# Altium footprint library Package_SO.PcbLib: 393 footprints (part 1 of 25)
Each footprint in its own frame and in the unit in brackets; x right, y up, seen from the top. Pads: shape width x height; smd on the part's side, far side on the other; paste and mask are expansions set on the pad; w line width, h text height; cw(c..) or ccw(c..) is an arc to the next point about the centre after c.
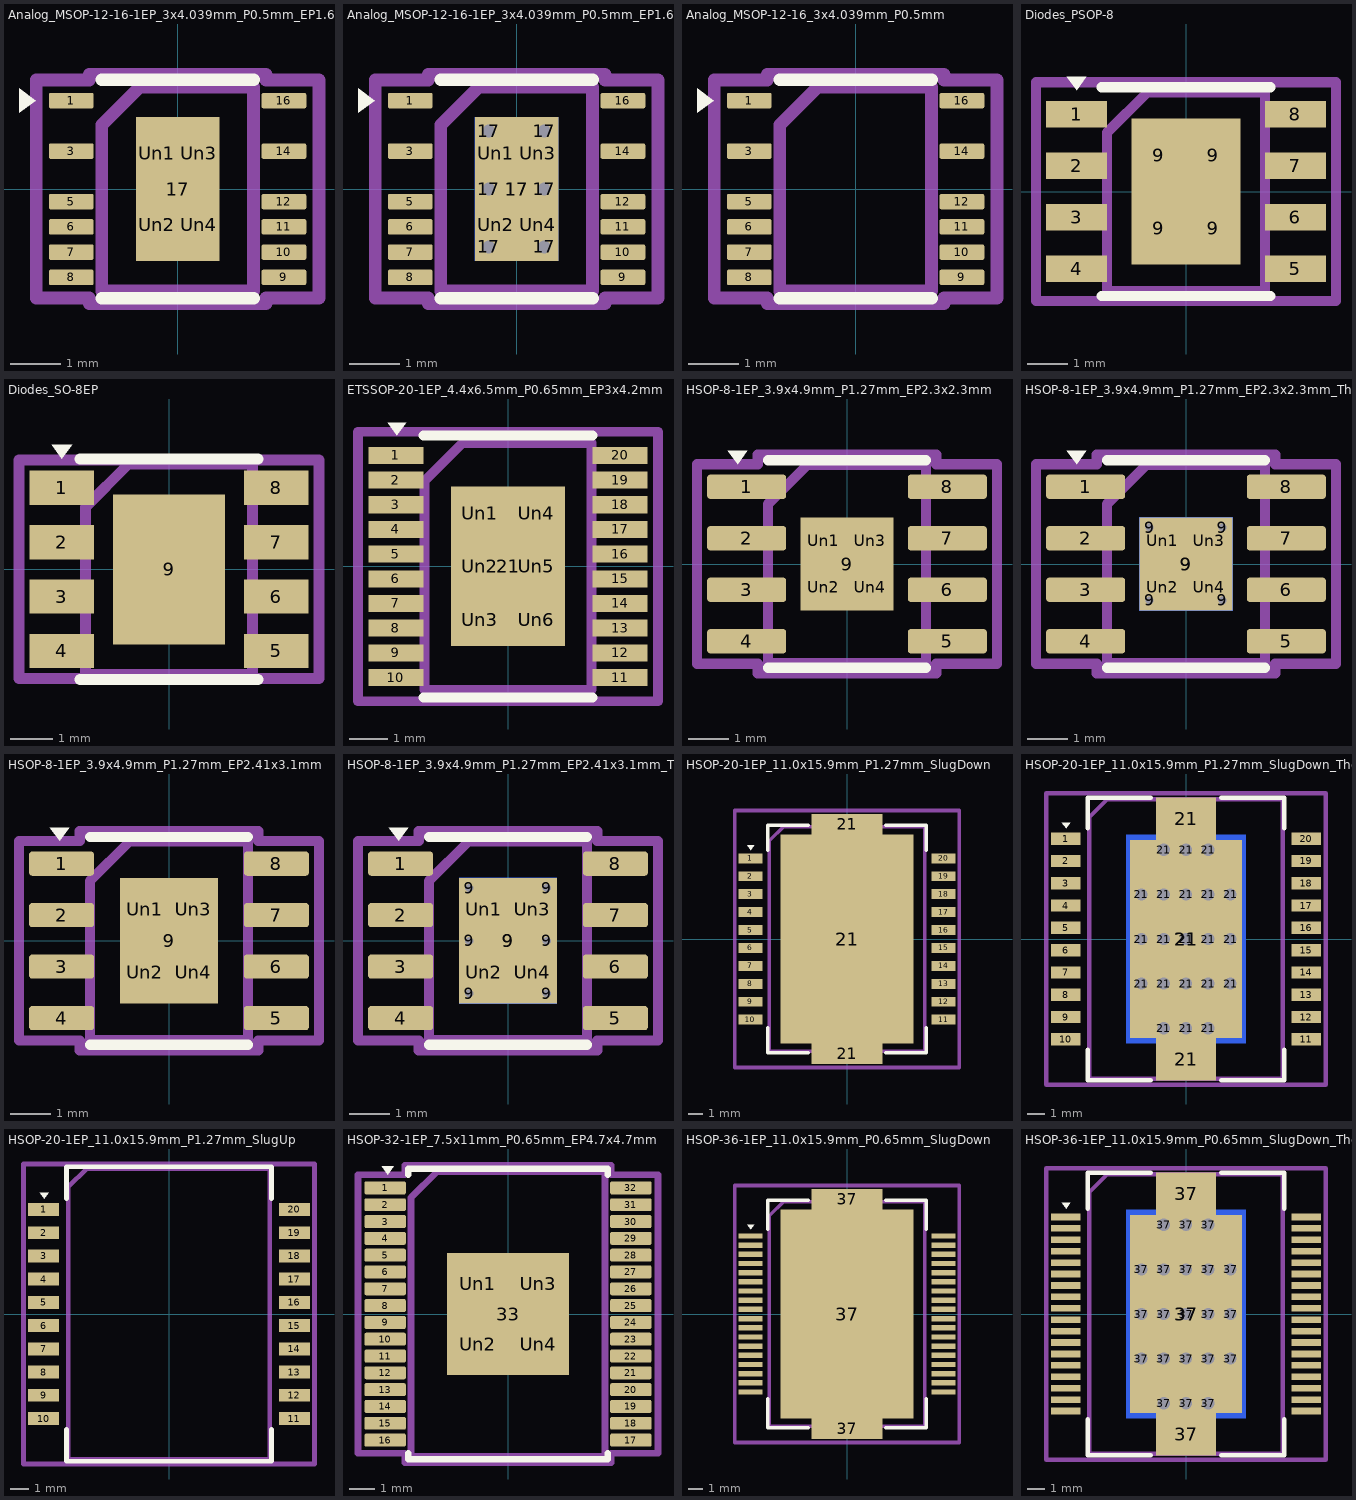
[diagram p0: the footprints below, top view; thin cyan lines are the x and y axes]

## Analog_MSOP-12-16-1EP_3x4.039mm_P0.5mm_EP1.651x2.845mm [mm]
pads (17):
  rrect25% 0.889x0.305 smd: 1(-2.105,1.75) 3(-2.105,0.75) 5(-2.105,-0.25) 6(-2.105,-0.75) 7(-2.105,-1.25) 8(-2.105,-1.75) 9(2.105,-1.75) 10(2.105,-1.25) 11(2.105,-0.75) 12(2.105,-0.25) 14(2.105,0.75) 16(2.105,1.75)
  rect 1.651x2.845 smd: 17(0,0)
  rrect25% 0.69x1.19 on Top Paste: Un1(-0.415,0.71) Un2(-0.415,-0.71) Un3(0.415,0.71) Un4(0.415,-0.71)
F.SilkS:
  region: -2.81,1.75 -3.14,1.51 -3.14,1.99
  lines w0.254: -1.5,-2.163 0,-2.163 1.5,-2.163 ; -1.5,2.163 0,2.163 1.5,2.163
Top Assembly:
  lines w0.254: -1.5,-2.02 -1.5,1.269 -0.75,2.02 1.5,2.02 1.5,-2.02 -1.5,-2.02
  text "'.Designator'" at -3.033,-0.628 h0.75
Top Courtyard:
  lines w0.254: -2.8,-2.16 -2.8,2.16 -1.75,2.16 -1.75,2.27 1.75,2.27 1.75,2.16 2.8,2.16 2.8,-2.16 1.75,-2.16 1.75,-2.27 -1.75,-2.27 -1.75,-2.16 -2.8,-2.16
Top Designator:
  text ".Designator" at -7.725,-0.508 h1.52

## Analog_MSOP-12-16-1EP_3x4.039mm_P0.5mm_EP1.651x2.845mm_ThermalVias [mm]
pads (24):
  rrect25% 0.889x0.305 smd: 1(-2.105,1.75) 3(-2.105,0.75) 5(-2.105,-0.25) 6(-2.105,-0.75) 7(-2.105,-1.25) 8(-2.105,-1.75) 9(2.105,-1.75) 10(2.105,-1.25) 11(2.105,-0.75) 12(2.105,-0.25) 14(2.105,0.75) 16(2.105,1.75)
  round 0.55 hole 0.25: 17(-0.55,-1.148) 17(-0.55,0) 17(-0.55,1.148) 17(0.55,-1.148) 17(0.55,0) 17(0.55,1.148)
  rect 1.651x2.845 smd: 17(0,0)
  rect 1.651x2.845 smd far side: 17(0,0)
  rrect25% 0.69x1.19 on Top Paste: Un1(-0.415,0.71) Un2(-0.415,-0.71) Un3(0.415,0.71) Un4(0.415,-0.71)
F.SilkS:
  region: -2.81,1.75 -3.14,1.51 -3.14,1.99
  lines w0.254: -1.5,-2.163 0,-2.163 1.5,-2.163 ; -1.5,2.163 0,2.163 1.5,2.163
Top Assembly:
  lines w0.254: -1.5,-2.02 -1.5,1.269 -0.75,2.02 1.5,2.02 1.5,-2.02 -1.5,-2.02
  text "'.Designator'" at -3.033,-0.628 h0.75
Top Courtyard:
  lines w0.254: -2.8,-2.16 -2.8,2.16 -1.75,2.16 -1.75,2.27 1.75,2.27 1.75,2.16 2.8,2.16 2.8,-2.16 1.75,-2.16 1.75,-2.27 -1.75,-2.27 -1.75,-2.16 -2.8,-2.16
Top Designator:
  text ".Designator" at -7.725,-0.508 h1.52

## Analog_MSOP-12-16_3x4.039mm_P0.5mm [mm]
pads (12):
  rrect25% 0.889x0.305 smd: 1(-2.105,1.75) 3(-2.105,0.75) 5(-2.105,-0.25) 6(-2.105,-0.75) 7(-2.105,-1.25) 8(-2.105,-1.75) 9(2.105,-1.75) 10(2.105,-1.25) 11(2.105,-0.75) 12(2.105,-0.25) 14(2.105,0.75) 16(2.105,1.75)
F.SilkS:
  region: -2.81,1.75 -3.14,1.51 -3.14,1.99
  lines w0.254: -1.5,-2.163 0,-2.163 1.5,-2.163 ; -1.5,2.163 0,2.163 1.5,2.163
Top Assembly:
  lines w0.254: -1.5,-2.02 -1.5,1.269 -0.75,2.02 1.5,2.02 1.5,-2.02 -1.5,-2.02
  text "'.Designator'" at -3.033,-0.628 h0.75
Top Courtyard:
  lines w0.254: -2.8,-2.16 -2.8,2.16 -1.75,2.16 -1.75,2.27 1.75,2.27 1.75,2.16 2.8,2.16 2.8,-2.16 1.75,-2.16 1.75,-2.27 -1.75,-2.27 -1.75,-2.16 -2.8,-2.16
Top Designator:
  text ".Designator" at -7.725,-0.508 h1.52

## Diodes_PSOP-8 [mm]
pads (12):
  rect 1.5x0.65 smd: 1(-2.7,1.905) 2(-2.7,0.635) 3(-2.7,-0.635) 4(-2.7,-1.905) 5(2.7,-1.905) 6(2.7,-0.635) 7(2.7,0.635) 8(2.7,1.905)
  rect 1.35x1.8 smd: 9(-0.675,-0.9) 9(-0.675,0.9) 9(0.675,-0.9) 9(0.675,0.9)
F.SilkS:
  region: -2.7,2.5 -2.94,2.83 -2.46,2.83
  lines w0.254: -2.075,-2.575 2.075,-2.575 ; -2.075,2.575 2.075,2.575
Top Assembly:
  lines w0.254: -1.95,-2.45 -1.95,1.45 -0.95,2.45 1.95,2.45 1.95,-2.45 -1.95,-2.45
  text "'.Designator'" at -4.047,-0.84 h1
Top Courtyard:
  lines w0.254: -3.7,-2.7 -3.7,2.7 3.7,2.7 3.7,-2.7 -3.7,-2.7
Top Designator:
  text ".Designator" at -7.768,-0.506 h1.52

## Diodes_SO-8EP [mm]
pads (9):
  rect 1.505x0.802 smd: 1(-2.498,1.905) 2(-2.498,0.635) 3(-2.498,-0.635) 4(-2.498,-1.905) 5(2.498,-1.905) 6(2.498,-0.635) 7(2.498,0.635) 8(2.498,1.905)
  rect 2.613x3.502 smd: 9(0,0)
F.SilkS:
  region: -2.5,2.575 -2.74,2.905 -2.26,2.905
  lines w0.254: -2.075,-2.575 2.075,-2.575 ; -2.075,2.575 2.075,2.575
Top Assembly:
  lines w0.254: -1.95,-2.45 -1.95,1.45 -0.95,2.45 1.95,2.45 1.95,-2.45 -1.95,-2.45
  text "'.Designator'" at -4.047,-0.84 h1
Top Courtyard:
  lines w0.254: -3.5,-2.55 -3.5,2.55 3.5,2.55 3.5,-2.55 -3.5,-2.55
Top Designator:
  text ".Designator" at -7.768,-0.406 h1.52

## ETSSOP-20-1EP_4.4x6.5mm_P0.65mm_EP3x4.2mm [mm]
pads (27):
  rect 1.45x0.45 smd: 1(-2.95,2.925) 2(-2.95,2.275) 3(-2.95,1.625) 4(-2.95,0.975) 5(-2.95,0.325) 6(-2.95,-0.325) 7(-2.95,-0.975) 8(-2.95,-1.625) 9(-2.95,-2.275) 10(-2.95,-2.925) 11(2.95,-2.925) 12(2.95,-2.275) 13(2.95,-1.625) 14(2.95,-0.975) 15(2.95,-0.325) 16(2.95,0.325) 17(2.95,0.975) 18(2.95,1.625) 19(2.95,2.275) 20(2.95,2.925)
  rect 3x4.2 smd: 21(0,0)
  rect 1.2x1.14 on Top Paste: Un1(-0.75,1.4) Un2(-0.75,0) Un3(-0.75,-1.4) Un4(0.75,1.4) Un5(0.75,0) Un6(0.75,-1.4)
F.SilkS:
  region: -2.925,3.45 -3.165,3.78 -2.685,3.78
  lines w0.254: -2.225,-3.45 2.225,-3.45 ; -2.225,3.45 2.225,3.45
Top Assembly:
  lines w0.254: -2.2,-3.25 -2.2,2.25 -1.2,3.25 2.2,3.25 2.2,-3.25 -2.2,-3.25
  text "'.Designator'" at -3.267,-0.702 h0.8
Top Courtyard:
  lines w0.254: -3.95,-3.55 -3.95,3.55 3.95,3.55 3.95,-3.55 -3.95,-3.55
Top Designator:
  text ".Designator" at -7.618,-0.456 h1.52

## HSOP-8-1EP_3.9x4.9mm_P1.27mm_EP2.3x2.3mm [mm]
pads (13):
  rrect25% 1.95x0.6 smd: 1(-2.475,1.905) 2(-2.475,0.635) 3(-2.475,-0.635) 4(-2.475,-1.905) 5(2.475,-1.905) 6(2.475,-0.635) 7(2.475,0.635) 8(2.475,1.905)
  rect 2.3x2.3 smd: 9(0,0)
  rrect25% 0.93x0.93 on Top Paste: Un1(-0.575,0.575) Un2(-0.575,-0.575) Un3(0.575,0.575) Un4(0.575,-0.575)
F.SilkS:
  region: -2.7,2.465 -2.94,2.795 -2.46,2.795
  lines w0.254: -1.95,-2.56 0,-2.56 1.95,-2.56 ; -1.95,2.56 0,2.56 1.95,2.56
Top Assembly:
  lines w0.254: -1.95,-2.45 -1.95,1.475 -0.975,2.45 1.95,2.45 1.95,-2.45 -1.95,-2.45
  text "'.Designator'" at -3.969,-0.827 h0.98
Top Courtyard:
  lines w0.254: -3.7,-2.46 -3.7,2.46 -2.2,2.46 -2.2,2.7 2.2,2.7 2.2,2.46 3.7,2.46 3.7,-2.46 2.2,-2.46 2.2,-2.7 -2.2,-2.7 -2.2,-2.46 -3.7,-2.46
Top Designator:
  text ".Designator" at -7.763,-0.508 h1.52

## HSOP-8-1EP_3.9x4.9mm_P1.27mm_EP2.3x2.3mm_ThermalVias [mm]
pads (18):
  rrect25% 1.95x0.6 smd: 1(-2.475,1.905) 2(-2.475,0.635) 3(-2.475,-0.635) 4(-2.475,-1.905) 5(2.475,-1.905) 6(2.475,-0.635) 7(2.475,0.635) 8(2.475,1.905)
  round 0.5 hole 0.2: 9(-0.9,-0.9) 9(-0.9,0.9) 9(0.9,-0.9) 9(0.9,0.9)
  rect 2.3x2.3 smd: 9(0,0)
  rect 2.3x2.3 smd far side: 9(0,0)
  rrect25% 0.93x0.93 on Top Paste: Un1(-0.575,0.575) Un2(-0.575,-0.575) Un3(0.575,0.575) Un4(0.575,-0.575)
F.SilkS:
  region: -2.7,2.465 -2.94,2.795 -2.46,2.795
  lines w0.254: -1.95,-2.56 0,-2.56 1.95,-2.56 ; -1.95,2.56 0,2.56 1.95,2.56
Top Assembly:
  lines w0.254: -1.95,-2.45 1.95,-2.45 1.95,2.45 -0.975,2.45 -1.95,1.475 -1.95,-2.45
  text "'.Designator'" at -3.969,-0.827 h0.98
Top Courtyard:
  lines w0.254: -3.7,-2.46 -2.2,-2.46 -2.2,-2.7 2.2,-2.7 2.2,-2.46 3.7,-2.46 3.7,2.46 2.2,2.46 2.2,2.7 -2.2,2.7 -2.2,2.46 -3.7,2.46 -3.7,-2.46
Top Designator:
  text ".Designator" at -7.763,-0.508 h1.52

## HSOP-8-1EP_3.9x4.9mm_P1.27mm_EP2.41x3.1mm [mm]
pads (13):
  rrect25% 1.6x0.6 smd: 1(-2.65,1.905) 2(-2.65,0.635) 3(-2.65,-0.635) 4(-2.65,-1.905) 5(2.65,-1.905) 6(2.65,-0.635) 7(2.65,0.635) 8(2.65,1.905)
  rect 2.41x3.1 smd: 9(0,0)
  rrect25% 0.97x1.25 on Top Paste: Un1(-0.6,0.775) Un2(-0.6,-0.775) Un3(0.6,0.775) Un4(0.6,-0.775)
F.SilkS:
  region: -2.7,2.465 -2.94,2.795 -2.46,2.795
  lines w0.254: -1.95,-2.56 0,-2.56 1.95,-2.56 ; -1.95,2.56 0,2.56 1.95,2.56
Top Assembly:
  lines w0.254: -1.95,-2.45 1.95,-2.45 1.95,2.45 -0.975,2.45 -1.95,1.475 -1.95,-2.45
  text "'.Designator'" at -3.969,-0.827 h0.98
Top Courtyard:
  lines w0.254: -3.7,-2.46 -2.2,-2.46 -2.2,-2.7 2.2,-2.7 2.2,-2.46 3.7,-2.46 3.7,2.46 2.2,2.46 2.2,2.7 -2.2,2.7 -2.2,2.46 -3.7,2.46 -3.7,-2.46
Top Designator:
  text ".Designator" at -7.763,-0.508 h1.52

## HSOP-8-1EP_3.9x4.9mm_P1.27mm_EP2.41x3.1mm_ThermalVias [mm]
pads (20):
  rrect25% 1.6x0.6 smd: 1(-2.65,1.905) 2(-2.65,0.635) 3(-2.65,-0.635) 4(-2.65,-1.905) 5(2.65,-1.905) 6(2.65,-0.635) 7(2.65,0.635) 8(2.65,1.905)
  round 0.5 hole 0.2: 9(-0.955,-1.3) 9(-0.955,0) 9(-0.955,1.3) 9(0.955,-1.3) 9(0.955,0) 9(0.955,1.3)
  rect 2.41x3.1 smd: 9(0,0)
  rect 2.41x3.1 smd far side: 9(0,0)
  rrect25% 0.97x1.25 on Top Paste: Un1(-0.6,0.775) Un2(-0.6,-0.775) Un3(0.6,0.775) Un4(0.6,-0.775)
F.SilkS:
  region: -2.7,2.465 -2.94,2.795 -2.46,2.795
  lines w0.254: -1.95,-2.56 0,-2.56 1.95,-2.56 ; -1.95,2.56 0,2.56 1.95,2.56
Top Assembly:
  lines w0.254: -1.95,-2.45 1.95,-2.45 1.95,2.45 -0.975,2.45 -1.95,1.475 -1.95,-2.45
  text "'.Designator'" at -3.969,-0.827 h0.98
Top Courtyard:
  lines w0.254: -3.7,-2.46 -2.2,-2.46 -2.2,-2.7 2.2,-2.7 2.2,-2.46 3.7,-2.46 3.7,2.46 2.2,2.46 2.2,2.7 -2.2,2.7 -2.2,2.46 -3.7,2.46 -3.7,-2.46
Top Designator:
  text ".Designator" at -7.763,-0.508 h1.52

## HSOP-20-1EP_11.0x15.9mm_P1.27mm_SlugDown [mm]
pads (23):
  rect 1.7x0.7 smd: 1(-6.85,5.715) 2(-6.85,4.445) 3(-6.85,3.175) 4(-6.85,1.905) 5(-6.85,0.635) 6(-6.85,-0.635) 7(-6.85,-1.905) 8(-6.85,-3.175) 9(-6.85,-4.445) 10(-6.85,-5.715) 11(6.85,-5.715) 12(6.85,-4.445) 13(6.85,-3.175) 14(6.85,-1.905) 15(6.85,-0.635) 16(6.85,0.635) 17(6.85,1.905) 18(6.85,3.175) 19(6.85,4.445) 20(6.85,5.715)
  rect 5x1.45 smd: 21(0,-8.125) 21(0,8.125)
  rect 9.4x14.8 smd: 21(0,0)
F.SilkS:
  region: -6.825,6.3 -7.065,6.63 -6.585,6.63
  lines w0.254: -5.6,-6.3 -5.6,-8.05 -2.75,-8.05 ; -5.6,6.3 -5.6,8.05 -2.75,8.05 ; 2.75,-8.05 5.6,-8.05 5.6,-6.3 ; 2.75,8.05 5.6,8.05 5.6,6.3
Top Assembly:
  lines w0.254: -5.5,-7.95 5.5,-7.95 5.5,7.95 -4.5,7.95 -5.5,6.95 -5.5,-7.95
  text "'.Designator'" at -4.047,-0.84 h1
Top Courtyard:
  lines w0.254: -7.95,-9.1 7.95,-9.1 7.95,9.1 -7.95,9.1 -7.95,-9.1
Top Designator:
  text ".Designator" at -7.618,-0.508 h1.52

## HSOP-20-1EP_11.0x15.9mm_P1.27mm_SlugDown_ThermalVias [mm]
pads (45):
  rect 1.7x0.7 smd: 1(-6.85,5.715) 2(-6.85,4.445) 3(-6.85,3.175) 4(-6.85,1.905) 5(-6.85,0.635) 6(-6.85,-0.635) 7(-6.85,-1.905) 8(-6.85,-3.175) 9(-6.85,-4.445) 10(-6.85,-5.715) 11(6.85,-5.715) 12(6.85,-4.445) 13(6.85,-3.175) 14(6.85,-1.905) 15(6.85,-0.635) 16(6.85,0.635) 17(6.85,1.905) 18(6.85,3.175) 19(6.85,4.445) 20(6.85,5.715)
  round 1 hole 0.7: 21(-2.54,-2.54) 21(-2.54,0) 21(-2.54,2.54) 21(-1.27,-5.08) 21(-1.27,-2.54) 21(-1.27,0) 21(-1.27,2.54) 21(-1.27,5.08) 21(0,-5.08) 21(0,-2.54) 21(0,0) 21(0,2.54) 21(0,5.08) 21(1.27,-5.08) 21(1.27,-2.54) 21(1.27,0) 21(1.27,2.54) 21(1.27,5.08) 21(2.54,-2.54) 21(2.54,0) 21(2.54,2.54)
  rect 3.4x2.415 smd: 21(0,-6.843) 21(0,6.843)
  rect 6.4x11.27 smd: 21(0,0)
  rect 6.78x11.86 smd far side: 21(0,0)
F.SilkS:
  region: -6.825,6.3 -7.065,6.63 -6.585,6.63
  lines w0.254: -5.6,-6.3 -5.6,-8.05 -2,-8.05 ; -5.6,6.3 -5.6,8.05 -2,8.05 ; 2,-8.05 5.6,-8.05 5.6,-6.3 ; 2,8.05 5.6,8.05 5.6,6.3
Top Assembly:
  lines w0.254: -5.5,-7.95 5.5,-7.95 5.5,7.95 -4.5,7.95 -5.5,6.95 -5.5,-7.95
  text "'.Designator'" at -4.047,-0.84 h1
Top Courtyard:
  lines w0.254: -7.95,-8.3 7.95,-8.3 7.95,8.3 -7.95,8.3 -7.95,-8.3
Top Designator:
  text ".Designator" at -7.618,-0.508 h1.52

## HSOP-20-1EP_11.0x15.9mm_P1.27mm_SlugUp [mm]
pads (20):
  rect 1.7x0.7 smd: 1(-6.85,5.715) 2(-6.85,4.445) 3(-6.85,3.175) 4(-6.85,1.905) 5(-6.85,0.635) 6(-6.85,-0.635) 7(-6.85,-1.905) 8(-6.85,-3.175) 9(-6.85,-4.445) 10(-6.85,-5.715) 11(6.85,-5.715) 12(6.85,-4.445) 13(6.85,-3.175) 14(6.85,-1.905) 15(6.85,-0.635) 16(6.85,0.635) 17(6.85,1.905) 18(6.85,3.175) 19(6.85,4.445) 20(6.85,5.715)
F.SilkS:
  region: -6.825,6.3 -7.065,6.63 -6.585,6.63
  lines w0.254: -5.6,-6.3 -5.6,-8.05 5.6,-8.05 5.6,-6.3 ; -5.6,6.3 -5.6,8.05 5.6,8.05 5.6,6.3
Top Assembly:
  lines w0.254: -5.5,-7.95 5.5,-7.95 5.5,7.95 -4.5,7.95 -5.5,6.95 -5.5,-7.95
  text "'.Designator'" at -4.047,-0.84 h1
Top Courtyard:
  lines w0.254: -7.95,-8.2 7.95,-8.2 7.95,8.2 -7.95,8.2 -7.95,-8.2
Top Designator:
  text ".Designator" at -7.618,-0.508 h1.52

## HSOP-32-1EP_7.5x11mm_P0.65mm_EP4.7x4.7mm [mm]
pads (37):
  rrect25% 1.6x0.5 smd: 1(-4.75,4.875) 2(-4.75,4.225) 3(-4.75,3.575) 4(-4.75,2.925) 5(-4.75,2.275) 6(-4.75,1.625) 7(-4.75,0.975) 8(-4.75,0.325) 9(-4.75,-0.325) 10(-4.75,-0.975) 11(-4.75,-1.625) 12(-4.75,-2.275) 13(-4.75,-2.925) 14(-4.75,-3.575) 15(-4.75,-4.225) 16(-4.75,-4.875) 17(4.75,-4.875) 18(4.75,-4.225) 19(4.75,-3.575) 20(4.75,-2.925) 21(4.75,-2.275) 22(4.75,-1.625) 23(4.75,-0.975) 24(4.75,-0.325) 25(4.75,0.325) 26(4.75,0.975) 27(4.75,1.625) 28(4.75,2.275) 29(4.75,2.925) 30(4.75,3.575) 31(4.75,4.225) 32(4.75,4.875)
  rect 4.7x4.7 smd: 33(0,0)
  rrect13% 1.89x1.89 on Top Paste: Un1(-1.175,1.175) Un2(-1.175,-1.175) Un3(1.175,1.175) Un4(1.175,-1.175)
F.SilkS:
  region: -4.65,5.385 -4.89,5.715 -4.41,5.715
  lines w0.254: -3.86,-5.385 -3.86,-5.61 0,-5.61 3.86,-5.61 3.86,-5.385 ; -3.86,5.385 -3.86,5.61 0,5.61 3.86,5.61 3.86,5.385
Top Assembly:
  lines w0.254: -3.75,-5.5 3.75,-5.5 3.75,5.5 -2.75,5.5 -3.75,4.5 -3.75,-5.5
  text "'.Designator'" at -4.047,-0.84 h1
Top Courtyard:
  lines w0.254: -5.8,-5.38 -4,-5.38 -4,-5.75 4,-5.75 4,-5.38 5.8,-5.38 5.8,5.38 4,5.38 4,5.75 -4,5.75 -4,5.38 -5.8,5.38 -5.8,-5.38
Top Designator:
  text ".Designator" at -7.618,-0.508 h1.52

## HSOP-36-1EP_11.0x15.9mm_P0.65mm_SlugDown [mm]
pads (39):
  rect 1.7x0.38 smd: 1(-6.85,5.525) 2(-6.85,4.875) 3(-6.85,4.225) 4(-6.85,3.575) 5(-6.85,2.925) 6(-6.85,2.275) 7(-6.85,1.625) 8(-6.85,0.975) 9(-6.85,0.325) 10(-6.85,-0.325) 11(-6.85,-0.975) 12(-6.85,-1.625) 13(-6.85,-2.275) 14(-6.85,-2.925) 15(-6.85,-3.575) 16(-6.85,-4.225) 17(-6.85,-4.875) 18(-6.85,-5.525) 19(6.85,-5.525) 20(6.85,-4.875) 21(6.85,-4.225) 22(6.85,-3.575) 23(6.85,-2.925) 24(6.85,-2.275) 25(6.85,-1.625) 26(6.85,-0.975) 27(6.85,-0.325) 28(6.85,0.325) 29(6.85,0.975) 30(6.85,1.625) 31(6.85,2.275) 32(6.85,2.925) 33(6.85,3.575) 34(6.85,4.225) 35(6.85,4.875) 36(6.85,5.525)
  rect 5x1.45 smd: 37(0,-8.125) 37(0,8.125)
  rect 9.4x14.8 smd: 37(0,0)
F.SilkS:
  region: -6.825,6 -7.065,6.33 -6.585,6.33
  lines w0.254: -5.6,-6 -5.6,-8.05 -2.75,-8.05 ; -5.6,6 -5.6,8.05 -2.75,8.05 ; 2.75,-8.05 5.6,-8.05 5.6,-6 ; 2.75,8.05 5.6,8.05 5.6,6
Top Assembly:
  lines w0.254: -5.5,-7.95 5.5,-7.95 5.5,7.95 -4.5,7.95 -5.5,6.95 -5.5,-7.95
  text "'.Designator'" at -4.047,-0.84 h1
Top Courtyard:
  lines w0.254: -7.95,-9.1 7.95,-9.1 7.95,9.1 -7.95,9.1 -7.95,-9.1
Top Designator:
  text ".Designator" at -7.618,-0.508 h1.52

## HSOP-36-1EP_11.0x15.9mm_P0.65mm_SlugDown_ThermalVias [mm]
pads (61):
  rect 1.7x0.38 smd: 1(-6.85,5.525) 2(-6.85,4.875) 3(-6.85,4.225) 4(-6.85,3.575) 5(-6.85,2.925) 6(-6.85,2.275) 7(-6.85,1.625) 8(-6.85,0.975) 9(-6.85,0.325) 10(-6.85,-0.325) 11(-6.85,-0.975) 12(-6.85,-1.625) 13(-6.85,-2.275) 14(-6.85,-2.925) 15(-6.85,-3.575) 16(-6.85,-4.225) 17(-6.85,-4.875) 18(-6.85,-5.525) 19(6.85,-5.525) 20(6.85,-4.875) 21(6.85,-4.225) 22(6.85,-3.575) 23(6.85,-2.925) 24(6.85,-2.275) 25(6.85,-1.625) 26(6.85,-0.975) 27(6.85,-0.325) 28(6.85,0.325) 29(6.85,0.975) 30(6.85,1.625) 31(6.85,2.275) 32(6.85,2.925) 33(6.85,3.575) 34(6.85,4.225) 35(6.85,4.875) 36(6.85,5.525)
  round 1 hole 0.7: 37(-2.54,-2.54) 37(-2.54,0) 37(-2.54,2.54) 37(-1.27,-5.08) 37(-1.27,-2.54) 37(-1.27,0) 37(-1.27,2.54) 37(-1.27,5.08) 37(0,-5.08) 37(0,-2.54) 37(0,0) 37(0,2.54) 37(0,5.08) 37(1.27,-5.08) 37(1.27,-2.54) 37(1.27,0) 37(1.27,2.54) 37(1.27,5.08) 37(2.54,-2.54) 37(2.54,0) 37(2.54,2.54)
  rect 3.4x2.415 smd: 37(0,-6.843) 37(0,6.843)
  rect 6.4x11.27 smd: 37(0,0)
  rect 6.78x11.86 smd far side: 37(0,0)
F.SilkS:
  region: -6.825,6 -7.065,6.33 -6.585,6.33
  lines w0.254: -5.6,-6 -5.6,-8.05 -2,-8.05 ; -5.6,6 -5.6,8.05 -2,8.05 ; 2,-8.05 5.6,-8.05 5.6,-6 ; 2,8.05 5.6,8.05 5.6,6
Top Assembly:
  lines w0.254: -5.5,-7.95 5.5,-7.95 5.5,7.95 -4.5,7.95 -5.5,6.95 -5.5,-7.95
  text "'.Designator'" at -4.047,-0.84 h1
Top Courtyard:
  lines w0.254: -7.95,-8.3 7.95,-8.3 7.95,8.3 -7.95,8.3 -7.95,-8.3
Top Designator:
  text ".Designator" at -7.618,-0.508 h1.52